# Altium footprint library Fancy.PcbLib: 119 footprints (part 3 of 8)
Each footprint in its own frame and in the unit in brackets; x right, y up, seen from the top. Pads: shape width x height; smd on the part's side, far side on the other; paste and mask are expansions set on the pad; w line width, h text height; cw(c..) or ccw(c..) is an arc to the next point about the centre after c.
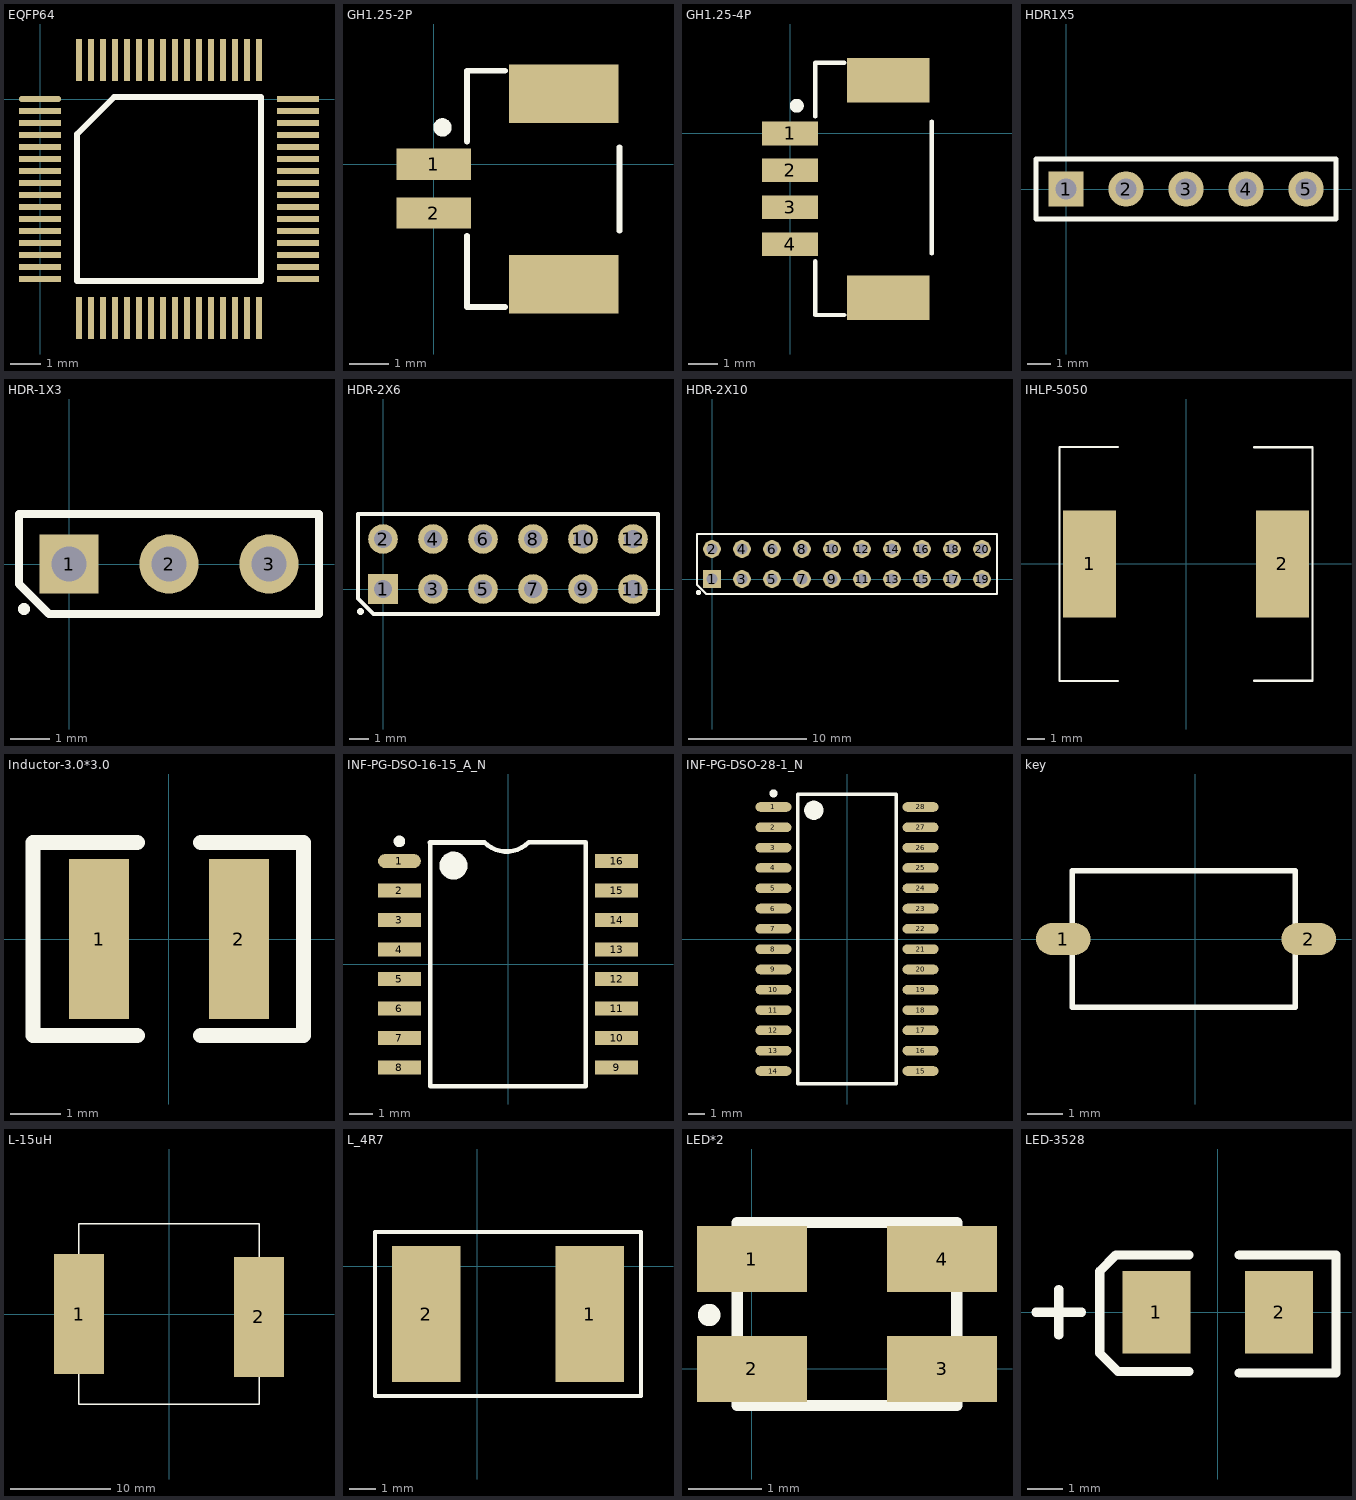
[diagram p2: the footprints below, top view; thin cyan lines are the x and y axes]

## EQFP64 [mm]
pads (64):
  oval 1.4x0.2 smd: 1(0,0)
  rect 1.4x0.2 smd: 2(0,-0.4) 3(0,-0.8) 4(0,-1.2) 5(0,-1.6) 6(0,-2) 7(0,-2.4) 8(0,-2.8) 9(0,-3.2) 10(0,-3.6) 11(0,-4) 12(0,-4.4) 13(0,-4.8) 14(0,-5.2) 15(0,-5.6) 16(0,-6) 33(8.6,-6) 34(8.6,-5.6) 35(8.6,-5.2) 36(8.6,-4.8) 37(8.6,-4.4) 38(8.6,-4) 39(8.6,-3.6) 40(8.6,-3.2) 41(8.6,-2.8) 42(8.6,-2.4) 43(8.6,-2) 44(8.6,-1.6) 45(8.6,-1.2) 46(8.6,-0.8) 47(8.6,-0.4) 48(8.6,0)
  rect 0.2x1.4 smd: 17(1.3,-7.3) 18(1.7,-7.3) 19(2.1,-7.3) 20(2.5,-7.3) 21(2.9,-7.3) 22(3.3,-7.3) 23(3.7,-7.3) 24(4.1,-7.3) 25(4.5,-7.3) 26(4.9,-7.3) 27(5.3,-7.3) 28(5.7,-7.3) 29(6.1,-7.3) 30(6.5,-7.3) 31(6.9,-7.3) 32(7.3,-7.3) 49(7.3,1.3) 50(6.9,1.3) 51(6.5,1.3) 52(6.1,1.3) 53(5.7,1.3) 54(5.3,1.3) 55(4.9,1.3) 56(4.5,1.3) 57(4.1,1.3) 58(3.7,1.3) 59(3.3,1.3) 60(2.9,1.3) 61(2.5,1.3) 62(2.1,1.3) 63(1.7,1.3) 64(1.3,1.3)
Top Overlay:
  lines w0.2: 1.235,-6.065 7.365,-6.065 7.365,0.065 2.47,0.065 1.235,-1.17 1.235,-6.065

## GH1.25-2P [mm] "卧贴与立贴封装相同"
pads (4):
  rect 1.9x0.8 smd paste+0 mask+0.102: 1(0,0) 2(0,-1.25)
  rect 2.8x1.5 smd paste+0 mask+0.102: ""(3.324,-3.069) ""(3.324,1.799)
Top Overlay:
  circle w0.254: c0.225,0.939 r0.108
  lines w0.15: 0.85,-1.829 0.85,-3.65 1.825,-3.65 ; 0.85,0.575 0.85,2.388 1.825,2.388 ; 4.75,-1.702 4.75,0.432

## GH1.25-4P [mm] "卧贴与立贴封装相同"
pads (6):
  rect 1.9x0.8 smd paste+0 mask+0.102: 1(0,0) 2(0,-1.25) 3(0,-2.5) 4(0,-3.75)
  rect 2.8x1.5 smd paste+0 mask+0.102: ""(3.324,-5.559) ""(3.324,1.799)
Top Overlay:
  circle w0.254: c0.225,0.939 r0.108
  lines w0.15: 0.85,-4.325 0.85,-6.147 1.825,-6.147 ; 0.85,0.575 0.85,2.388 1.825,2.388 ; 4.797,-4.064 4.797,0.406

## HDR1X5 [mm] "Connector; Header; 5 Position"
pads (5):
  rect 1.5x1.5 hole 0.9: 1(0,0)
  round 1.5 hole 0.9: 2(2.54,0) 3(5.08,0) 4(7.62,0) 5(10.16,0)
Top Overlay:
  lines w0.2: -1.27,-1.27 -1.27,1.27 11.43,1.27 11.43,-1.27 -1.27,-1.27

## HDR-1X3 [mm] "Connector; Header; 3 Position"
pads (3):
  rect 1.5x1.5 hole 0.9: 1(0,0)
  round 1.5 hole 0.9: 2(2.54,0) 3(5.08,0)
Top Overlay:
  circle w0.254: c-1.143,-1.143 r0.025
  lines w0.2: -1.27,-0.508 -0.508,-1.27 6.35,-1.27 6.35,1.27 -1.27,1.27 -1.27,-0.508

## HDR-2X6 [mm] "Connector; Header; 6x2 Position"
pads (12):
  rect 1.5x1.5 hole 0.9: 1(0,0)
  round 1.5 hole 0.9: 2(0,2.54) 3(2.54,0) 4(2.54,2.54) 5(5.08,0) 6(5.08,2.54) 7(7.62,0) 8(7.62,2.54) 9(10.16,0) 10(10.16,2.54) 11(12.7,0) 12(12.7,2.54)
Top Overlay:
  circle w0.254: c-1.143,-1.143 r0.051
  lines w0.2: -1.27,-0.483 -0.483,-1.27 13.97,-1.27 13.97,3.81 -1.27,3.81 -1.27,-0.483

## HDR-2X10 [mm] "Connector; Header; 10x2 Position"
pads (20):
  rect 1.5x1.5 hole 0.9: 1(0,0)
  round 1.5 hole 0.9: 2(0,2.54) 3(2.54,0) 4(2.54,2.54) 5(5.08,0) 6(5.08,2.54) 7(7.62,0) 8(7.62,2.54) 9(10.16,0) 10(10.16,2.54) 11(12.7,0) 12(12.7,2.54) 13(15.24,0) 14(15.24,2.54) 15(17.78,0) 16(17.78,2.54) 17(20.32,0) 18(20.32,2.54) 19(22.86,0) 20(22.86,2.54)
Top Overlay:
  circle w0.254: c-1.143,-1.143 r0.105
  lines w0.2: -1.27,-0.483 -0.483,-1.27 0.635,-1.27 24.13,-1.27 24.13,3.81 0.635,3.81 -1.27,3.81 -1.27,-0.483

## IHLP-5050 [mm]
pads (2):
  rect 2.945x6 smd: 1(-5.41,0) 2(5.41,0)
Top Overlay:
  lines w0.127: -3.81,-6.579 -7.087,-6.579 -7.087,6.553 -3.81,6.553 ; 3.81,-6.553 7.087,-6.553 7.087,6.528 3.81,6.528

## Inductor-3.0*3.0 [mm] "Body 3.0x 3.0mm (LxW typ)"
height 1.7
pads (2):
  rect 1.2x3.2 smd: 1(-1.397,0) 2(1.4,0)
Top Overlay:
  lines w0.305: -0.635,-1.93 -2.718,-1.93 -2.718,1.93 -0.635,1.93 ; 0.635,-1.93 2.692,-1.93 2.692,1.93 0.635,1.93

## INF-PG-DSO-16-15_A_N [mm] "SOP, 16-Leads, Body 10.34x7.505mm, Pitch 1.27mm, IPC Medium Density"
height 2.64
pads (16):
  oval 1.85x0.6 smd: 1(-4.675,4.445)
  rect 1.85x0.6 smd: 2(-4.675,3.175) 3(-4.675,1.905) 4(-4.675,0.635) 5(-4.675,-0.635) 6(-4.675,-1.905) 7(-4.675,-3.175) 8(-4.675,-4.445) 9(4.675,-4.445) 10(4.675,-3.175) 11(4.675,-1.905) 12(4.675,-0.635) 13(4.675,0.635) 14(4.675,1.905) 15(4.675,3.175) 16(4.675,4.445)
Top Overlay:
  circle w0.6: c-2.35,4.25 r0.3
  circle w0.25: c-4.675,5.295 r0.125
  lines w0.2: -3.35,5.25 -3.35,-5.25 3.35,-5.25 3.35,5.25 0.889,5.25 cw(c-0.064,6.202) -1.016,5.25
  lines w0.213: -3.35,5.25 -1.016,5.25

## INF-PG-DSO-28-1_N [mm] "SOP, 28-Leads, Body 17.9x7.5mm, Pitch 1.27mm, IPC Medium Density"
height 2.65
pads (28):
  oval 2.25x0.6 smd: 1(-4.6,8.255) 2(-4.6,6.985) 3(-4.6,5.715) 4(-4.6,4.445) 5(-4.6,3.175) 6(-4.6,1.905) 7(-4.6,0.635) 8(-4.6,-0.635) 9(-4.6,-1.905) 10(-4.6,-3.175) 11(-4.6,-4.445) 12(-4.6,-5.715) 13(-4.6,-6.985) 14(-4.6,-8.255) 15(4.6,-8.255) 16(4.6,-6.985) 17(4.6,-5.715) 18(4.6,-4.445) 19(4.6,-3.175) 20(4.6,-1.905) 21(4.6,-0.635) 22(4.6,0.635) 23(4.6,1.905) 24(4.6,3.175) 25(4.6,4.445) 26(4.6,5.715) 27(4.6,6.985) 28(4.6,8.255)
Top Overlay:
  circle w0.25: c-4.6,9.105 r0.125
  circle w0.6: c-2.075,8.05 r0.3
  lines w0.2: -3.075,-9.05 -3.075,9.05 3.075,9.05 3.075,-9.05 -3.075,-9.05

## key [mil]
pads (2):
  oval 60x35 smd: 1(-145,0) 2(125,0)
Top Overlay:
  lines w6: -135,-75 -135,-70 -135,75 110,75 110,-70 110,-75 100,-75 -125,-75 -135,-75

## L-15uH [mm]
pads (2):
  rect 5x12 smd: 1(-9.017,0) 2(8.966,-0.279)
Top Overlay:
  lines w0.127: -9.068,9.017 -0.025,9.042 8.992,9.042 9.017,0 9.017,-9.017 0,-9.017 -9.042,-9.042 -9.042,-0.025 -9.068,9.017

## L_4R7 [mil]
pads (2):
  rect 100x200 smd: 1(165,-70) 2(-75,-70)
Top Overlay:
  lines w6: -75,-190 165,-190 ; -150,-190 240,-190 240,50 165,50 -75,50 -150,50 -150,-190

## LED*2 [mm]
pads (4):
  rect 1.5x0.9 smd paste+0 mask+0.102: 1(0,1.5) 2(0,0) 3(2.6,0) 4(2.6,1.5)
Top Overlay:
  circle w0.254: c-0.584,0.737 r0.025
  lines w0.152: -0.2,-0.5 2.8,-0.5 2.8,2 -0.2,2 -0.2,-0.5

## LED-3528 [mm]
pads (2):
  rect 1.9x2.3 smd: 1(-1.715,0) 2(1.715,0)
Top Overlay:
  lines w0.254: -5.08,0 -3.81,0 ; -4.445,-0.635 -4.445,0.635 ; -0.8,-1.651 -2.794,-1.651 -3.3,-1.145 -3.3,1.145 -2.845,1.6 -0.8,1.6 ; 0.6,-1.7 3.302,-1.7 3.302,1.6 0.6,1.6